# EAGLE library part A3941 (library Motor_Control)
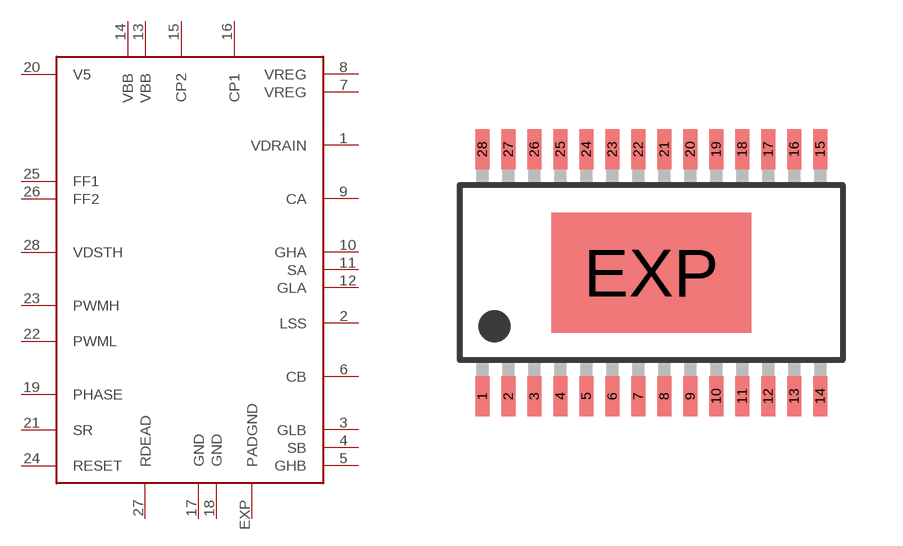
[diagram p0: symbol with the pads of TSSOP28-LP; footprint TSSOP28-LP]

Designator prefix U

## A3941-TSSOP28-LP (DESCRIPTION: Automotive Full Bridge MOSFET Driver; MANUFACTURER: Allegro MicroSystems LLC; MANUFACTURER_PART_NUMBER: A3941)  [TSSOP28-LP]
1  VDRAIN
2  LSS
3  GLB  out
4  SB
5  GHB  out
6  CB
7  VREG
8  VREG
9  CA
10  GHA  out
11  SA
12  GLA  out
13  VBB
14  VBB
15  CP2
16  CP1
17  GND
18  GND
19  PHASE  in
20  V5
21  SR  in
22  PWML  in
23  PWMH  in
24  RESET  in
25  FF1  out
26  FF2  out
27  RDEAD
28  VDSTH  in
EXP  PADGND

## Footprint TSSOP28-LP (pad centres in mm)
LP Package, 28-Pin TSSOP with Exposed Thermal Pad Source: http://allegromicro.com/datafile/3979.pdf
smd 0.35 x 1: 1 -4.225,-3.087; 2 -3.575,-3.087; 3 -2.925,-3.087; 4 -2.275,-3.087; 5 -1.625,-3.087; 6 -0.975,-3.087; 7 -0.325,-3.087; 8 0.325,-3.087; 9 0.975,-3.087; 10 1.625,-3.087; 11 2.275,-3.087; 12 2.925,-3.087; 13 3.575,-3.087; 14 4.225,-3.087; 15 4.225,3.087; 16 3.575,3.087; 17 2.925,3.087; 18 2.275,3.087; 19 1.625,3.087; 20 0.975,3.087; 21 0.325,3.087; 22 -0.325,3.087; 23 -0.975,3.087; 24 -1.625,3.087; 25 -2.275,3.087; 26 -2.925,3.087; 27 -3.575,3.087; 28 -4.225,3.087
smd 5 x 3: EXP 0,0